# EAGLE library part BC358239A (library csr)
BlueCore TM 3-Multuimedia Single Chip Bluetooth® v1.2 System Auto generated by make-symbol-device-package-bsdl.ulp Rev. 19 Source: http://www.csrsupport.com/download/1796/CS-101560-DSP1%20BlueCore3-Multimedia%20Product%20Data%20Sheet.pdf
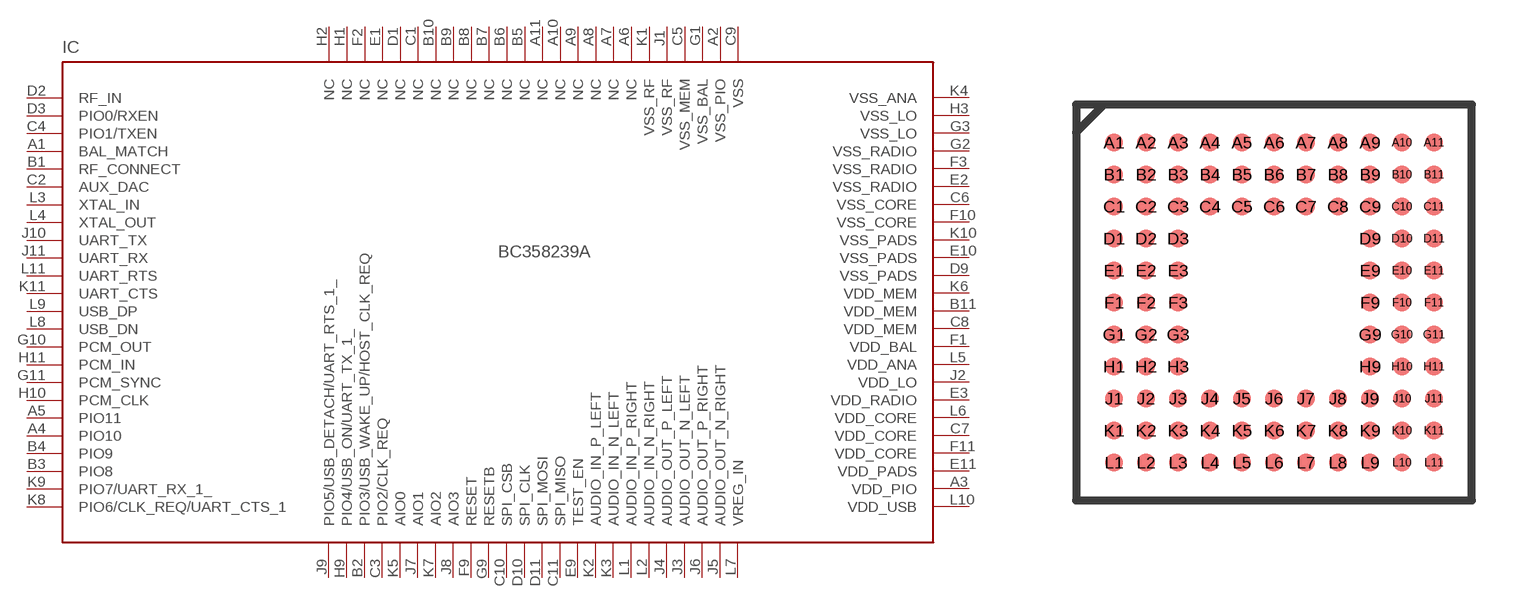
[diagram p0: symbol with the pads of LFBGA96; footprint LFBGA96]

Designator prefix IC

## BC358239A (OC_FARNELL: unknown; OC_NEWARK: unknown)  [LFBGA96]
A1  BAL_MATCH  in
A2  VSS_PIO  pwr
A3  VDD_PIO  in
A4  PIO10
A5  PIO11
A6  NC  pwr
A7  NC  nc
A8  NC  nc
A9  NC  nc
A10  NC  nc
A11  NC  nc
B1  RF_CONNECT
B2  PIO3/USB_WAKE_UP/HOST_CLK_REQ
B3  PIO8
B4  PIO9
B5  NC  nc
B6  NC  nc
B7  NC  nc
B8  NC  nc
B9  NC  nc
B10  NC  nc
B11  VDD_MEM  pwr
C1  NC  nc
C2  AUX_DAC  out
C3  PIO2/CLK_REQ
C4  PIO1/TXEN
C5  VSS_MEM  pwr
C6  VSS_CORE  pwr
C7  VDD_CORE  pwr
C8  VDD_MEM  in
C9  VSS  pwr
C10  SPI_CSB  in
C11  SPI_MISO  hiz
D1  NC  nc
D2  RF_IN  in
D3  PIO0/RXEN
D9  VSS_PADS  pwr
D10  SPI_CLK  in
D11  SPI_MOSI  in
E1  NC  nc
E2  VSS_RADIO  pwr
E3  VDD_RADIO  pwr
E9  TEST_EN  in
E10  VSS_PADS  pwr
E11  VDD_PADS  in
F1  VDD_BAL  out
F2  NC  nc
F3  VSS_RADIO  pwr
F9  RESET  in
F10  VSS_CORE  pwr
F11  VDD_CORE  in
G1  VSS_BAL  pwr
G2  VSS_RADIO  pwr
G3  VSS_LO  pwr
G9  RESETB  in
G10  PCM_OUT  out
G11  PCM_SYNC
H1  NC  nc
H2  NC  nc
H3  VSS_LO  pwr
H9  PIO4/USB_ON/UART_TX_1_
H10  PCM_CLK
H11  PCM_IN  in
J1  VSS_RF  pwr
J2  VDD_LO  in
J3  AUDIO_OUT_N_LEFT  out
J4  AUDIO_OUT_P_LEFT  out
J5  AUDIO_OUT_N_RIGHT  out
J6  AUDIO_OUT_P_RIGHT  out
J7  AIO1
J8  AIO3
J9  PIO5/USB_DETACH/UART_RTS_1_
J10  UART_TX  out
J11  UART_RX  in
K1  VSS_RF  pwr
K2  AUDIO_IN_P_LEFT  in
K3  AUDIO_IN_N_LEFT  in
K4  VSS_ANA  pwr
K5  AIO0
K6  VDD_MEM  pwr
K7  AIO2
K8  PIO6/CLK_REQ/UART_CTS_1
K9  PIO7/UART_RX_1_
K10  VSS_PADS  pwr
K11  UART_CTS  in
L1  AUDIO_IN_P_RIGHT  in
L2  AUDIO_IN_N_RIGHT  in
L3  XTAL_IN  in
L4  XTAL_OUT  out
L5  VDD_ANA  in
L6  VDD_CORE  pwr
L7  VREG_IN  out
L8  USB_DN
L9  USB_DP
L10  VDD_USB  in
L11  UART_RTS  hiz

## Footprint LFBGA96 (pad centres in mm)
LFBGA 96 Auto generated by make-symbol-device-package-bsdl.ulp Rev. 19 Source: http://www.csrsupport.com/download/1796/CS-101560-DSP1%20BlueCore3-Multimedia%20Product%20Data%20Sheet.pdf
smd 0.45 x 0.45: A1 -4,4; A2 -3.2,4; A3 -2.4,4; A4 -1.6,4; A5 -0.8,4; A6 0,4; A7 0.8,4; A8 1.6,4; A9 2.4,4; A10 3.2,4; A11 4,4; B1 -4,3.2; B2 -3.2,3.2; B3 -2.4,3.2; B4 -1.6,3.2; B5 -0.8,3.2; B6 0,3.2; B7 0.8,3.2; B8 1.6,3.2; B9 2.4,3.2; B10 3.2,3.2; B11 4,3.2; C1 -4,2.4; C2 -3.2,2.4; C3 -2.4,2.4; C4 -1.6,2.4; C5 -0.8,2.4; C6 0,2.4; C7 0.8,2.4; C8 1.6,2.4; C9 2.4,2.4; C10 3.2,2.4; C11 4,2.4; D1 -4,1.6; D2 -3.2,1.6; D3 -2.4,1.6; D9 2.4,1.6; D10 3.2,1.6; D11 4,1.6; E1 -4,0.8; E2 -3.2,0.8; E3 -2.4,0.8; E9 2.4,0.8; E10 3.2,0.8; E11 4,0.8; F1 -4,0; F2 -3.2,0; F3 -2.4,0; F9 2.4,0; F10 3.2,0; F11 4,0; G1 -4,-0.8; G2 -3.2,-0.8; G3 -2.4,-0.8; G9 2.4,-0.8; G10 3.2,-0.8; G11 4,-0.8; H1 -4,-1.6; H2 -3.2,-1.6; H3 -2.4,-1.6; H9 2.4,-1.6; H10 3.2,-1.6; H11 4,-1.6; J1 -4,-2.4; J2 -3.2,-2.4; J3 -2.4,-2.4; J4 -1.6,-2.4; J5 -0.8,-2.4; J6 0,-2.4; J7 0.8,-2.4; J8 1.6,-2.4; J9 2.4,-2.4; J10 3.2,-2.4; J11 4,-2.4; K1 -4,-3.2; K2 -3.2,-3.2; K3 -2.4,-3.2; K4 -1.6,-3.2; K5 -0.8,-3.2; K6 0,-3.2; K7 0.8,-3.2; K8 1.6,-3.2; K9 2.4,-3.2; K10 3.2,-3.2; K11 4,-3.2; L1 -4,-4; L2 -3.2,-4; L3 -2.4,-4; L4 -1.6,-4; L5 -0.8,-4; L6 0,-4; L7 0.8,-4; L8 1.6,-4; L9 2.4,-4; L10 3.2,-4; L11 4,-4